# Altium footprint library 0007-Optical_Tracker.PcbLib: 22 footprints (part 2 of 2)
Each footprint in its own frame and in the unit in brackets; x right, y up, seen from the top. Pads: shape width x height; smd on the part's side, far side on the other; paste and mask are expansions set on the pad; w line width, h text height; cw(c..) or ccw(c..) is an arc to the next point about the centre after c.
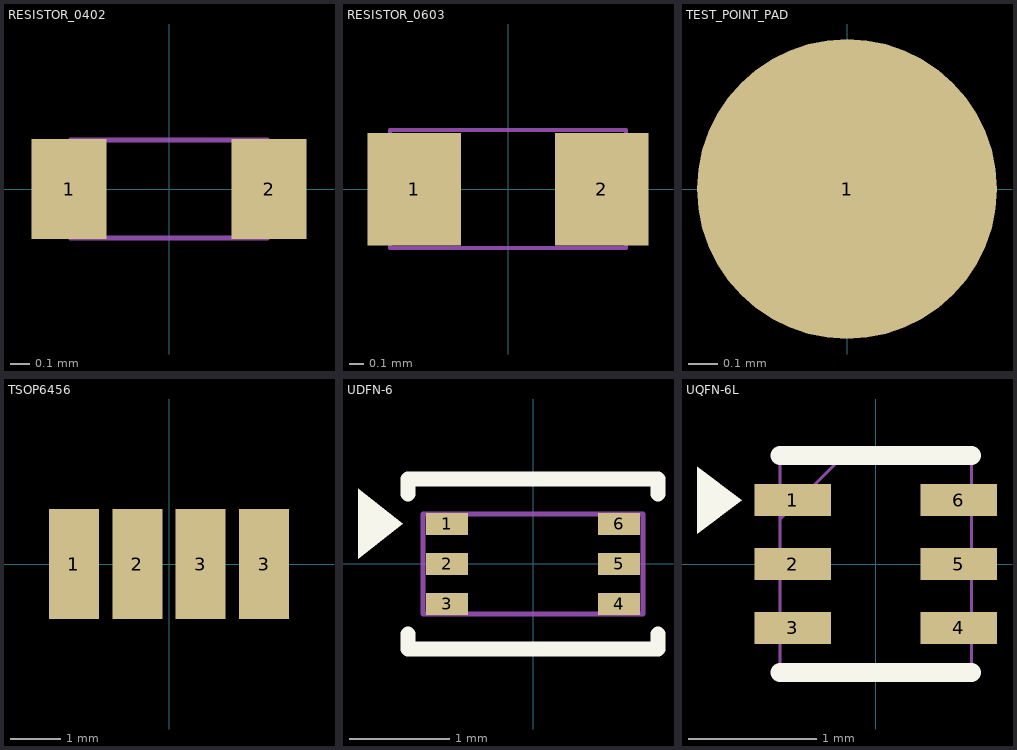
[diagram p1: the footprints below, top view; thin cyan lines are the x and y axes]

## RESISTOR_0402 [mil]
pads (2):
  rect 15x20 smd mask+2.5: 1(-20,0) 2(20,0)
Mechanical 1:
  lines w1: -19.68,-9.84 19.68,-9.84 19.68,9.84 -19.68,9.84 -19.68,-9.84
3D body: height 14.96, standoff 0, extent -19.68,-9.84 19.68,9.84

## RESISTOR_0603 [mil]
pads (2):
  rect 25x30 smd mask+2.5: 1(-25,0) 2(25,0)
Mechanical 1:
  lines w1: -31.5,-15.75 31.5,-15.75 31.5,15.75 -31.5,15.75 -31.5,-15.75
3D body: height 21.65, standoff 0, extent -31.5,-15.75 31.5,15.75

## TEST_POINT_PAD [mil]
pads (1):
  round 40 smd mask+2.5: 1(0,0)

## TSOP6456 [mm]
pads (4):
  rect 1x2.2 smd: 1(-1.905,0) 2(-0.635,0) 3(0.635,0) 3(1.905,0)
3D body: height 4, standoff 0, extent -3.75,-2.8 3.75,2.8

## UDFN-6 [mm]
pads (6):
  rect 0.42x0.22 smd mask+0.064: 1(-0.86,0.4) 2(-0.86,0) 3(-0.86,-0.4) 4(0.86,-0.4) 5(0.86,0) 6(0.86,0.4)
Top Overlay:
  region: -1.3,0.4 -1.75,0.05 -1.75,0.75
  lines w0.15: -1.25,-0.7 -1.25,-0.85 1.25,-0.85 1.25,-0.7 ; -1.25,0.7 -1.25,0.85 1.25,0.85 1.25,0.7
Mechanical 1:
  lines w0.05: -1.1,-0.5 1.1,-0.5 1.1,0.5 -1.1,0.5 -1.1,-0.5
3D body: height 0.8, standoff 0, extent -1.1,-0.5 1.125,0.5

## UQFN-6L [mm]
pads (6):
  rect 0.6x0.25 smd paste-0.3 mask+0.051: 1(-0.65,0.5) 2(-0.65,0) 3(-0.65,-0.5) 4(0.65,-0.5) 5(0.65,0) 6(0.65,0.5)
Top Overlay:
  region: -1.05,0.5 -1.4,0.237 -1.4,0.762
  lines w0.15: -0.75,-0.85 0.75,-0.85 ; -0.75,0.85 0.75,0.85
Top Paste:
  rectangle: 0.365,0.382 0.935,0.618
  rectangle: 0.365,-0.118 0.935,0.118
  rectangle: 0.365,-0.618 0.935,-0.382
  rectangle: -0.935,-0.618 -0.365,-0.382
  rectangle: -0.935,-0.118 -0.365,0.118
  rectangle: -0.935,0.382 -0.365,0.618
Mechanical 1:
  lines w0.025: -0.75,0.35 -0.25,0.85 ; -0.75,-0.85 -0.75,0.85 0.75,0.85 0.75,-0.85 -0.75,-0.85
3D body: height 0.5, standoff 0, extent -0.75,-0.85 0.75,0.85